# Altium schematic symbol library Teste_Altium.SchLib: 4 symbols
Pins are listed as number, name and electrical type; pins without a type are passive.

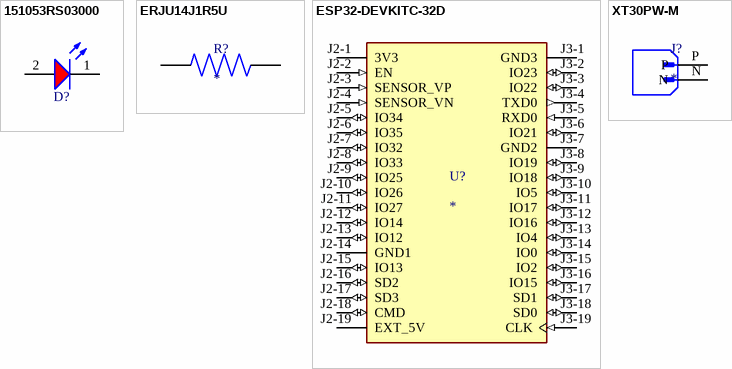
[diagram p0: symbols 151053RS03000 to XT30PW-M]

## 151053RS03000
designator D?, comment Red, 1.9V, 30°  (value not drawn)
WL-TMRW Mono-color Round Waterclear, THT, D5.8 x H11.7mm, Red, 1.9V, 30°; Manufacturer Part Number: 151053RS03000; Manufacturer: Wurth Elektronik; Chip Technology: AlInGaP; Dominant Wavelength: 623nm; Luminous Intensity: 5000mcd; Peak Wavelength: 631nm; Category: Signal LEDs; Match Code: WL-TMRW; ComponentLink1Description: Website Link; ComponentLink1URL: https://www.we-online.com/redexpert/article/151053RS03000?ad; ComponentLink2Description: Datasheet Link; ComponentLink2URL: https://www.we-online.com/redexpert/spec/151053RS03000?ad; Mount: Through Hole; Operating Temperature Max: 85°C; Operating Temperature Min: -40°C; Packaging: Bulk; Height: 11.7mm; Diameter: 5.8mm; Emitting Color: Red; Forward Voltage: 1.9V; Viewing Angle: 30°
footprint WL-TMRW_D5.8H11.7
simulation model 5mm_151053RS03000
pins: 1 K, 2 A

## ERJU14J1R5U
designator R?
1210 anti-sulfurated resistor 1210 Anti-Sulfurated; MP: ERJ-U14J1R5U; MF: Panasonic; Value: *; SnapEDA_Link: https://www.snapeda.com/parts/ERJ-U14J1R5U/Panasonic/view-part/?ref=snap; Purchase-URL: https://pricing.snapeda.com/search/part/ERJ-U14J1R5U/?ref=eda; Check_prices: https://www.snapeda.com/parts/ERJ-U14J1R5U/Panasonic/view-part/?ref=eda; Availability: In Stock; Price: None; Package: 3225-2 Panasonic
footprint RES_ERJU14J1R5U
pins: 1, 2

## ESP32-DEVKITC-32D
designator U?
WiFi Development Tools (802.11) ESP32 General Development Kit, ESP32-WROOM-32D on the board; MF: Espressif Systems; MP: ESP32-DEVKITC-32D; SnapEDA_Link: https://www.snapeda.com/parts/ESP32-DEVKITC-32D/Espressif+Systems/view-part/?ref=snap; Package: None; Value: *; Check_prices: https://www.snapeda.com/parts/ESP32-DEVKITC-32D/Espressif+Systems/view-part/?ref=eda
footprint MODULE_ESP32-DEVKITC-32D
pins: J2-1 3V3 (power), J2-2 EN (in), J2-3 SENSOR_VP (in), J2-4 SENSOR_VN (in), J2-5 IO34 (io), J2-6 IO35 (io), J2-7 IO32 (io), J2-8 IO33 (io), J2-9 IO25 (io), J2-10 IO26 (io), J2-11 IO27 (io), J2-12 IO14 (io), J2-13 IO12 (io), J2-14 GND1 (power), J2-15 IO13 (io), J2-16 SD2 (io), J2-17 SD3 (io), J2-18 CMD (io), J2-19 EXT_5V (power), J3-1 GND3 (power), J3-2 IO23 (io), J3-3 IO22 (io), J3-4 TXD0 (out), J3-5 RXD0 (in), J3-6 IO21 (io), J3-7 GND2 (power), J3-8 IO19 (io), J3-9 IO18 (io), J3-10 IO5 (io), J3-11 IO17 (io), J3-12 IO16 (io), J3-13 IO4 (io), J3-14 IO0 (io), J3-15 IO2 (io), J3-16 IO15 (io), J3-17 SD1 (io), J3-18 SD0 (io), J3-19 CLK (in)

## XT30PW-M
designator J?
Socket; DC supply; XT30; male; PIN: 2; on PCBs; THT; Colour: yellow; MF: AMASS; MP: XT30PW-M; SnapEDA_Link: https://www.snapeda.com/parts/XT30PW-M/AMASS/view-part/?ref=snap; Package: None; Value: *; Check_prices: https://www.snapeda.com/parts/XT30PW-M/AMASS/view-part/?ref=eda
footprint AMASS_XT30PW-M
pins: N (power), P (power)